# Altium footprint library WE-XTAL.PcbLib: 20 footprints (part 1 of 2)
Each footprint in its own frame and in the unit in brackets; x right, y up, seen from the top. Pads: shape width x height; smd on the part's side, far side on the other; paste and mask are expansions set on the pad; w line width, h text height; cw(c..) or ccw(c..) is an arc to the next point about the centre after c.
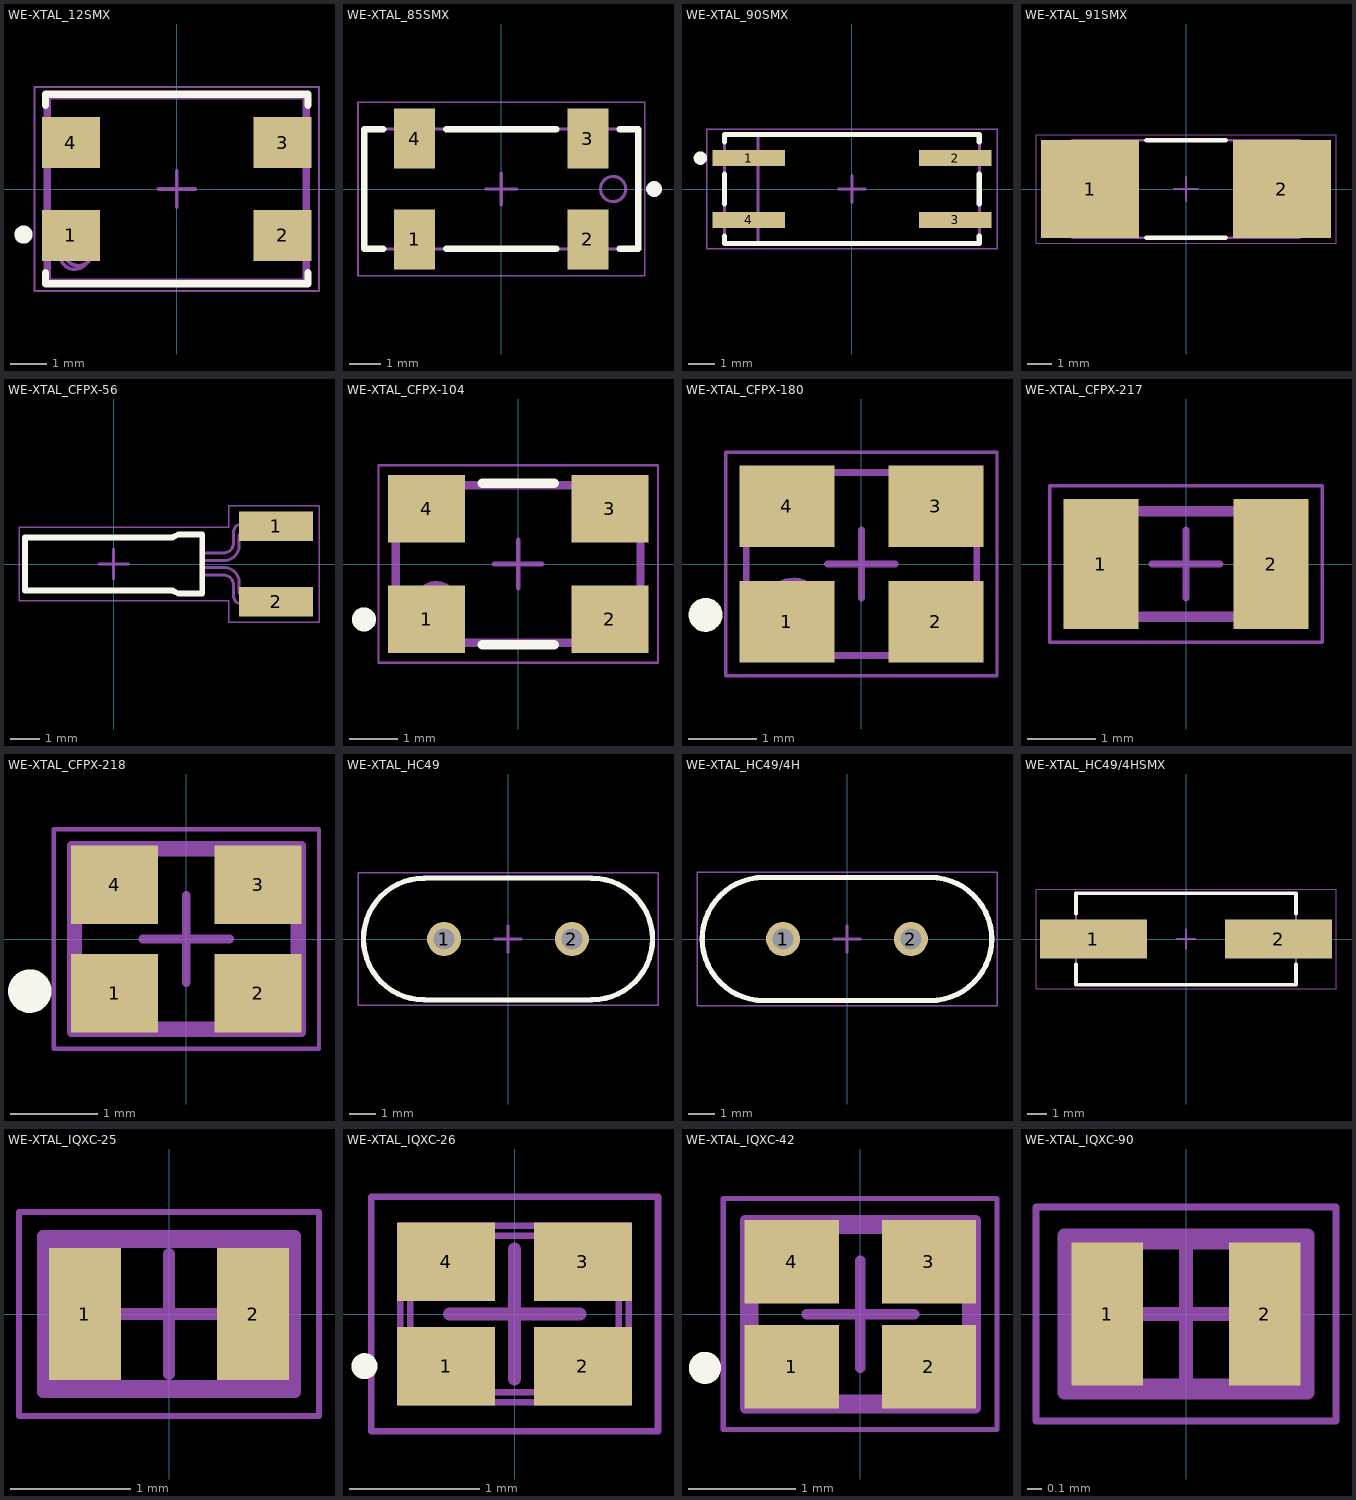
[diagram p0: the footprints below, top view; thin cyan lines are the x and y axes]

## WE-XTAL_12SMX [mm] "Quartz Crystal, size 12SMX, body 7.5x5.2mm"
height 1.2
pads (4):
  rect 1.6x1.4 smd: 1(-2.9,-1.27) 2(2.9,-1.27) 3(2.9,1.27) 4(-2.9,1.27)
Top Overlay:
  circle w0.25: c-4.2,-1.25 r0.125
  lines w0.2: -3.6,-2.3 -3.6,-2.6 3.6,-2.6 3.6,-2.3 ; -3.6,2.3 -3.6,2.6 3.6,2.6 3.6,2.3
Top Assembly:
  circle w0.1: c-2.8,-1.8 r0.4
  lines w0.1: -3.6,-2.6 -3.6,2.6 3.6,2.6 3.6,-2.6 -3.6,-2.6
Top Designator:
  text ".Designator" at -3.647,-0.357 h1
Top 3D Body:
  circle w0.1: c-2.7,-1.7 r0.4
  lines w0.1: -3.5,-2.5 3.5,-2.5 3.5,2.5 -3.5,2.5 -3.5,-2.5
Top Courtyard:
  lines w0.05: -3.9,-2.8 3.9,-2.8 3.9,2.8 -3.9,2.8 -3.9,-2.8
Top Component Center:
  lines w0.1: -0.5,0 0.5,0 ; 0,-0.5 0,0.5
3D body "12SMX-B.stp": height 1.2, standoff 0, extent -3.5,-2.5 3.5,2.5

## WE-XTAL_85SMX [mm] "Quartz Crystal, size 85SMX, body 8.7x3.2mm"
height 2.5
pads (4):
  rect 1.3x1.9 smd: 1(-2.75,-1.6) 2(2.75,-1.6) 3(2.75,1.6) 4(-2.75,1.6)
Top Overlay:
  circle w0.25: c4.85,0 r0.125
  lines w0.2: -3.75,-1.9 -4.35,-1.9 -4.35,1.9 -3.75,1.9 ; -1.75,-1.9 1.75,-1.9 ; -1.75,1.9 1.75,1.9 ; 3.75,-1.9 4.35,-1.9 4.35,1.9 3.75,1.9
Top Assembly:
  circle w0.1: c3.55,0 r0.4
  lines w0.1: -4.35,-1.9 -4.35,1.9 4.35,1.9 4.35,-1.9 -4.35,-1.9
Top Designator:
  text ".Designator" at -3.647,-0.357 h1
Top 3D Body:
  circle w0.1: c3.55,0 r0.4
  lines w0.1: -4.35,-1.9 4.35,-1.9 4.35,1.9 -4.35,1.9 -4.35,-1.9
Top Courtyard:
  lines w0.05: -4.55,-2.75 -4.55,2.75 4.55,2.75 4.55,-2.75 -4.55,-2.75
Top Component Center:
  lines w0.1: -0.5,0 0.5,0 ; 0,-0.5 0,0.5
3D body "FrqXTAL_85SMX.stp": height 2.45, standoff 0, extent -3.9,-1.849 3.9,1.849

## WE-XTAL_90SMX [mm] "Quartz Crystal, size 90SMX, body 10.41x4.06mm"
height 3.56
pads (4):
  rect 2.7x0.6 smd: 1(-3.85,1.15) 2(3.85,1.15) 3(3.85,-1.15) 4(-3.85,-1.15)
Top Overlay:
  circle w0.25: c-5.65,1.15 r0.125
  lines w0.2: -4.75,-1.75 -4.75,-2.03 4.75,-2.03 4.75,-1.75 ; -4.75,-0.55 -4.75,0.55 ; -4.75,1.75 -4.75,2.03 4.75,2.03 4.75,1.75 ; 4.75,-0.55 4.75,0.55
Top Assembly:
  lines w0.1: -3.5,-2.03 -3.5,2.03 ; -4.75,-2.03 4.75,-2.03 4.75,2.03 -4.75,2.03 -4.75,-2.03
Top Designator:
  text ".Designator" at -3.647,-0.357 h1
Top 3D Body:
  lines w0.1: -4.75,-2.03 -4.75,2.03 4.75,2.03 4.75,-2.03 -4.75,-2.03
Top Courtyard:
  lines w0.05: -5.405,-2.23 -5.405,2.23 5.405,2.23 5.405,-2.23 -5.405,-2.23
Top Component Center:
  lines w0.1: -0.5,0 0.5,0 ; 0,-0.5 0,0.5
3D body "FrqXTAL_90SMX.stp": height 3.25, standoff 0, extent -5,-1.8 5,1.8

## WE-XTAL_91SMX [mm] "Quartz Crystal, size 91SMX, body 10.41x4.06mm"
height 3.56
pads (2):
  rect 4.1x4.1 smd: 1(-4,0) 2(4,0)
Top Overlay:
  lines w0.2: -1.65,-2.03 1.65,-2.03 ; -1.65,2.03 1.65,2.03
Top Assembly:
  lines w0.1: -4.75,-2.03 4.75,-2.03 4.75,2.03 -4.75,2.03 -4.75,-2.03
Top Designator:
  text ".Designator" at -3.647,-0.357 h1
Top 3D Body:
  lines w0.1: -4.75,-2.03 -4.75,2.03 4.75,2.03 4.75,-2.03 -4.75,-2.03
Top Courtyard:
  lines w0.05: -6.25,-2.25 6.25,-2.25 6.25,2.25 -6.25,2.25 -6.25,-2.25
Top Component Center:
  lines w0.1: -0.5,0 0.5,0 ; 0,-0.5 0,0.5
3D body "FrqXTAL_91SMX.stp": height 3.25, standoff 0, extent -5,-1.8 5,1.8

## WE-XTAL_CFPX-56 [mm] "Quartz Crystal, size CFPX-56, body 6x1.8mm"
height 1.8
pads (2):
  rect 2.5x1 smd: 1(5.5,1.27) 2(5.5,-1.27)
Top Overlay:
  lines w0.2: -3,-0.9 2,-0.9 2.2,-1 3,-1 3,1 2.2,1 2,0.9 -3,0.9 -3,-0.9
Top Assembly:
  lines w0.1: 3,-0.375 3.7,-0.375 cw(c3.728,-0.698) 4.051,-0.671 4.051,-1.04 cw(c2.936,-1.335) 4.074,-1.149 ccw(c4.45,-1.036) 4.153,-1.293 ccw(c4.544,-0.597) 4.54,-1.395 6,-1.395 6,-1.145 4.54,-1.145 cw(c4.488,-0.907) 4.25,-0.959 4.25,-0.59 ccw(c3.743,-0.632) 3.7,-0.125 3,-0.125 ; 3,0.125 3.7,0.125 ccw(c3.743,0.632) 4.25,0.59 4.25,0.959 cw(c4.488,0.907) 4.54,1.145 6,1.145 6,1.395 4.54,1.395 ccw(c4.544,0.597) 4.153,1.293 ccw(c4.45,1.036) 4.074,1.149 cw(c2.936,1.335) 4.051,1.04 4.051,0.671 cw(c3.728,0.698) 3.7,0.375 3,0.375 ; -3,-0.9 2,-0.9 2.2,-1 3,-1 3,1 2.2,1 2,0.9 -3,0.9 -3,-0.9
Top Designator:
  text ".Designator" at -3.647,-0.357 h1
Top 3D Body:
  lines w0.1: 3,-0.375 3.7,-0.375 cw(c3.728,-0.698) 4.051,-0.671 4.051,-1.04 cw(c2.936,-1.335) 4.074,-1.149 ccw(c4.45,-1.036) 4.153,-1.293 ccw(c4.544,-0.597) 4.54,-1.395 6,-1.395 6,-1.145 4.54,-1.145 cw(c4.488,-0.907) 4.25,-0.959 4.25,-0.59 ccw(c3.743,-0.632) 3.7,-0.125 3,-0.125 ; 3,0.125 3.7,0.125 ccw(c3.743,0.632) 4.25,0.59 4.25,0.959 cw(c4.488,0.907) 4.54,1.145 6,1.145 6,1.395 4.54,1.395 ccw(c4.544,0.597) 4.153,1.293 ccw(c4.45,1.036) 4.074,1.149 cw(c2.936,1.335) 4.051,1.04 4.051,0.671 cw(c3.728,0.698) 3.7,0.375 3,0.375 ; -3,-0.9 -3,0.9 2,0.9 2.2,1 3,1 3,-1 2.2,-1 2,-0.9 -3,-0.9
Top Courtyard:
  lines w0.05: -3.2,-1.25 3.9,-1.25 3.9,-1.97 6.95,-1.97 6.95,1.97 3.9,1.97 3.9,1.25 -3.2,1.25 -3.2,-1.25
Top Component Center:
  lines w0.1: -0.5,0 0.5,0 ; 0,-0.5 0,0.5
3D body "CFPX-56.stp": height 1.8, standoff 0.02, extent -3,-1.375 6,1.415

## WE-XTAL_CFPX-104 [mm] "Quartz Crystal, size CFPX-104, body 5x3.2mm"
height 1
pads (4):
  rect 1.6x1.4 smd: 1(-1.9,-1.15) 2(1.9,-1.15) 3(1.9,1.15) 4(-1.9,1.15)
Top Overlay:
  circle w0.25: c-3.2,-1.15 r0.125
  lines w0.2: -0.75,-1.675 0.75,-1.675 ; -0.75,1.675 0.75,1.675
Top Assembly:
  circle w0.1: c-1.775,-0.875 r0.4
  lines w0.1: -2.575,-1.675 2.575,-1.675 2.575,1.675 -2.575,1.675 -2.575,-1.675
Top Designator:
  text ".Designator" at -3.647,-0.357 h1
Top 3D Body:
  circle w0.1: c-1.7,-0.8 r0.4
  lines w0.1: -2.5,-1.6 -2.5,1.6 2.5,1.6 2.5,-1.6 -2.5,-1.6
Top Courtyard:
  lines w0.05: -2.9,-2.05 -2.9,2.05 2.9,2.05 2.9,-2.05 -2.9,-2.05
Top Component Center:
  lines w0.1: -0.5,0 0.5,0 ; 0,-0.5 0,0.5
3D body "CFPX-104.stp": height 1, standoff 0, extent -2.5,-1.6 2.5,1.6

## WE-XTAL_CFPX-180 [mm] "Quartz Crystal, size CFPX-180, body 3.4x2.7mm"
height 0.8
pads (4):
  rect 1.4x1.2 smd: 1(-1.1,-0.85) 2(1.1,-0.85) 3(1.1,0.85) 4(-1.1,0.85)
Top Overlay:
  circle w0.25: c-2.3,-0.75 r0.125
Top Assembly:
  circle w0.1: c-1,-0.65 r0.4
  lines w0.1: -1.7,-1.35 1.7,-1.35 1.7,1.35 -1.7,1.35 -1.7,-1.35
Top Designator:
  text ".Designator" at -3.647,-0.357 h1
Top 3D Body:
  circle w0.1: c-1,-0.65 r0.4
  lines w0.1: -1.7,-1.35 -1.7,1.35 1.7,1.35 1.7,-1.35 -1.7,-1.35
Top Courtyard:
  lines w0.05: 2,1.65 -2,1.65 -2,-1.65 2,-1.65 2,1.65 ; 2,1.65 2,1.65
Top Component Center:
  lines w0.1: -0.5,0 0.5,0 ; 0,-0.5 0,0.5
3D body "CFPX-180.stp": height 0.8, standoff 0, extent -1.7,-1.35 1.7,1.35

## WE-XTAL_CFPX-217 [mm] "Quartz Crystal, size CFPX-217, body 3.2x1.5mm"
height 0.9
pads (2):
  rect 1.1x1.9 smd: 1(-1.25,0) 2(1.25,0)
Top Assembly:
  lines w0.1: -1.65,-0.8 1.65,-0.8 1.65,0.8 -1.65,0.8 -1.65,-0.8
Top Designator:
  text ".Designator" at -3.647,-0.357 h1
Top 3D Body:
  lines w0.1: -1.6,-0.75 -1.6,0.75 1.6,0.75 1.6,-0.75 -1.6,-0.75
Top Courtyard:
  lines w0.05: -2,-1.15 -2,1.15 2,1.15 2,-1.15 -2,-1.15
Top Component Center:
  lines w0.1: -0.5,0 0.5,0 ; 0,-0.5 0,0.5
3D body "CFPX-217.stp": height 0.75, standoff 0, extent -1.6,-0.75 1.6,0.75

## WE-XTAL_CFPX-218 [mm] "Quartz Crystal, size CFPX-218, body 2.5x2mm"
height 0.6
pads (4):
  rect 1x0.9 smd: 1(-0.825,-0.625) 2(0.825,-0.625) 3(0.825,0.625) 4(-0.825,0.625)
Top Overlay:
  circle w0.25: c-1.8,-0.6 r0.125
Top Assembly:
  lines w0.1: -1.325,-1.075 1.325,-1.075 1.325,1.075 -1.325,1.075 -1.325,-1.075
Top Designator:
  text ".Designator" at -3.647,-0.357 h1
Top 3D Body:
  lines w0.1: -1.25,-1 1.25,-1 1.25,1 -1.25,1 -1.25,-1
Top Courtyard:
  lines w0.05: -1.525,-1.262 1.525,-1.262 1.525,1.262 -1.525,1.262 -1.525,-1.262
Top Component Center:
  lines w0.1: -0.5,0 0.5,0 ; 0,-0.5 0,0.5
3D body "CFPX-218.stp": height 0.6, standoff 0, extent -1.25,-1 1.25,1

## WE-XTAL_HC49 [mm] "Quartz Crystal, size HC49, body 11.05x10.2mm"
height 13.46
pads (2):
  round 1.3 hole 0.8: 1(-2.44,0) 2(2.44,0)
Top Overlay:
  lines w0.2: -3.2,-2.325 3.2,-2.325 ; -3.2,-2.32 cw(c-3.2,0) -5.52,0 cw(c-3.2,0) -3.2,2.32 ; -3.2,2.325 3.2,2.325 ; 3.2,-2.32 ccw(c3.2,0) 5.52,0 ccw(c3.2,0) 3.2,2.32
Top Assembly:
  lines w0.1: -3.2,-2.325 3.2,-2.325 ; -3.2,-2.32 cw(c-3.2,0) -5.52,0 cw(c-3.2,0) -3.2,2.32 ; -3.2,2.325 3.2,2.325 ; 3.2,-2.32 ccw(c3.2,0) 5.52,0 ccw(c3.2,0) 3.2,2.32
Top Designator:
  text ".Designator" at -3.647,-0.357 h1
Top 3D Body:
  lines w0.1: -3.2,-2.325 3.2,-2.325 ; -3.2,-2.32 cw(c-3.2,0) -5.52,0 cw(c-3.2,0) -3.2,2.32 ; -3.2,2.325 3.2,2.325 ; 3.2,-2.32 ccw(c3.2,0) 5.52,0 ccw(c3.2,0) 3.2,2.32
Top Courtyard:
  lines w0.05: -5.725,-2.525 -5.725,2.525 5.725,2.525 5.725,-2.525 -5.725,-2.525
Top Component Center:
  lines w0.1: -0.5,0 0.5,0 ; 0,-0.5 0,0.5
3D body "HC49.stp": height 13.51, standoff -13.15, extent -5.512,-2.35 5.512,2.35

## WE-XTAL_HC49/4H [mm] "Quartz Crystal, size HC49/4H, body 11.05x4.7mm"
height 4.1
pads (2):
  round 1.3 hole 0.8: 1(-2.44,0) 2(2.44,0)
Top Overlay:
  lines w0.2: -3.175,-2.35 cw(c-3.175,0) -3.175,2.35 3.175,2.35 cw(c3.175,0) 3.175,-2.35 -3.175,-2.35
Top Assembly:
  lines w0.1: -3.175,-2.35 cw(c-3.175,0) -3.175,2.35 3.175,2.35 cw(c3.175,0) 3.175,-2.35 -3.175,-2.35
Top Designator:
  text ".Designator" at -3.647,-0.357 h1
Top 3D Body:
  lines w0.1: -3.175,-2.35 cw(c-3.175,0) -3.175,2.35 3.175,2.35 cw(c3.175,0) 3.175,-2.35 -3.175,-2.35
Top Courtyard:
  lines w0.05: -5.725,-2.55 5.725,-2.55 5.725,2.55 -5.725,2.55 -5.725,-2.55
Top Component Center:
  lines w0.1: -0.5,0 0.5,0 ; 0,-0.5 0,0.5
3D body "HC49-4H.stp": height 4.15, standoff -13.05, extent -5.525,-2.35 5.525,2.35

## WE-XTAL_HC49/4HSMX [mm] "Quartz Crystal, size HC49/4HSMX, body 11.4x4.9mm"
height 4.3
pads (2):
  rect 5.5x2 smd: 1(-4.75,0) 2(4.75,0)
Top Overlay:
  lines w0.2: -5.65,-1.3 -5.65,-2.35 5.65,-2.35 5.65,-1.3 ; -5.65,1.3 -5.65,2.35 5.65,2.35 5.65,1.3
Top Assembly:
  lines w0.1: -5.65,-2.35 -5.65,2.35 5.65,2.35 5.65,-2.35 -5.65,-2.35
Top Designator:
  text ".Designator" at -3.647,-0.357 h1
Top 3D Body:
  lines w0.1: -5.65,-2.35 5.65,-2.35 5.65,2.35 -5.65,2.35 -5.65,-2.35
Top Courtyard:
  lines w0.05: -7.7,-2.55 7.7,-2.55 7.7,2.55 -7.7,2.55 -7.7,-2.55
Top Component Center:
  lines w0.1: -0.5,0 0.5,0 ; 0,-0.5 0,0.5
3D body "FrqXTAL_HC49-4HSMX.stp": height 4.4, standoff 0.1, extent -6.7,-2.45 6.7,2.45

## WE-XTAL_IQXC-25 [mm] "Quartz Crystal, size IQXC-25, body 2x1mm"
height 0.6
pads (2):
  rect 0.6x1.1 smd: 1(-0.7,0) 2(0.7,0)
Top Assembly:
  lines w0.1: -1.05,-0.65 -1.05,0.65 1.05,0.65 1.05,-0.65 -1.05,-0.65
Top Designator:
  text ".Designator" at -3.647,-0.357 h1
Top 3D Body:
  lines w0.1: -1,-0.6 1,-0.6 1,0.6 -1,0.6 -1,-0.6
Top Courtyard:
  lines w0.05: -1.25,-0.85 1.25,-0.85 1.25,0.85 -1.25,0.85 -1.25,-0.85
Top Component Center:
  lines w0.1: -0.5,0 0.5,0 ; 0,-0.5 0,0.5
3D body "FrqXTAL_IQXC-25.stp": height 0.55, standoff 0, extent -1,-0.6 1,0.6

## WE-XTAL_IQXC-26 [mm] "Quartz Crystal, size IQXC-26, body 1.6x1.2mm"
height 0.4
pads (4):
  rect 0.75x0.6 smd: 1(-0.525,-0.4) 2(0.525,-0.4) 3(0.525,0.4) 4(-0.525,0.4)
Top Overlay:
  circle w0.1: c-1.15,-0.4 r0.05
Top Assembly:
  lines w0.05: -0.875,-0.675 0.875,-0.675 0.875,0.675 -0.875,0.675 -0.875,-0.675
Top Designator:
  text ".Designator" at -3.647,-0.357 h1
Top 3D Body:
  lines w0.05: -0.8,-0.6 -0.8,0.6 0.8,0.6 0.8,-0.6 -0.8,-0.6
Top Courtyard:
  lines w0.05: -1.1,-0.9 -1.1,0.9 1.1,0.9 1.1,-0.9 -1.1,-0.9
Top Component Center:
  lines w0.1: -0.5,0 0.5,0 ; 0,-0.5 0,0.5
3D body "IQXC-26.stp": height 0.4, standoff 0, extent -0.8,-0.6 0.8,0.6

## WE-XTAL_IQXC-42 [mm] "Quartz Crystal, size IQXC-42, body 2x1.6mm"
height 0.5
pads (4):
  rect 0.88x0.78 smd: 1(-0.64,-0.49) 2(0.64,-0.49) 3(0.64,0.49) 4(-0.64,0.49)
Top Overlay:
  circle w0.15: c-1.45,-0.5 r0.075
Top Assembly:
  lines w0.1: -1.075,-0.875 1.075,-0.875 1.075,0.875 -1.075,0.875 -1.075,-0.875
Top Designator:
  text ".Designator" at -3.647,-0.357 h1
Top 3D Body:
  lines w0.1: -1,-0.8 -1,0.8 1,0.8 1,-0.8 -1,-0.8
Top Courtyard:
  lines w0.05: -1.28,-1.075 1.275,-1.075 1.275,1.08 -1.28,1.08 -1.28,-1.075
Top Component Center:
  lines w0.1: -0.5,0 0.5,0 ; 0,-0.5 0,0.5
3D body "IQXC-42.stp": height 0.5, standoff 0, extent -1,-0.801 1.004,0.803

## WE-XTAL_IQXC-90 [mm] "Quartz Crystal, size IQXC-90, body 1.6x1mm"
height 0.5
pads (2):
  rect 0.5x1 smd: 1(-0.55,0) 2(0.55,0)
Top Assembly:
  lines w0.1: -0.85,-0.55 -0.85,0.55 0.85,0.55 0.85,-0.55 -0.85,-0.55
Top Designator:
  text ".Designator" at -3.647,-0.357 h1
Top 3D Body:
  lines w0.1: -0.8,-0.5 0.8,-0.5 0.8,0.5 -0.8,0.5 -0.8,-0.5
Top Courtyard:
  lines w0.05: -1.05,-0.75 1.05,-0.75 1.05,0.75 -1.05,0.75 -1.05,-0.75
Top Component Center:
  lines w0.1: -0.5,0 0.5,0 ; 0,-0.5 0,0.5
3D body "IQXC-90.stp": height 0.5, standoff 0, extent -0.8,-0.5 0.8,0.5